# Altium footprint library CP1402.PcbLib: 1 footprints
Each footprint in its own frame and in the unit in brackets; x right, y up, seen from the top. Pads: shape width x height; smd on the part's side, far side on the other; paste and mask are expansions set on the pad; w line width, h text height; cw(c..) or ccw(c..) is an arc to the next point about the centre after c.
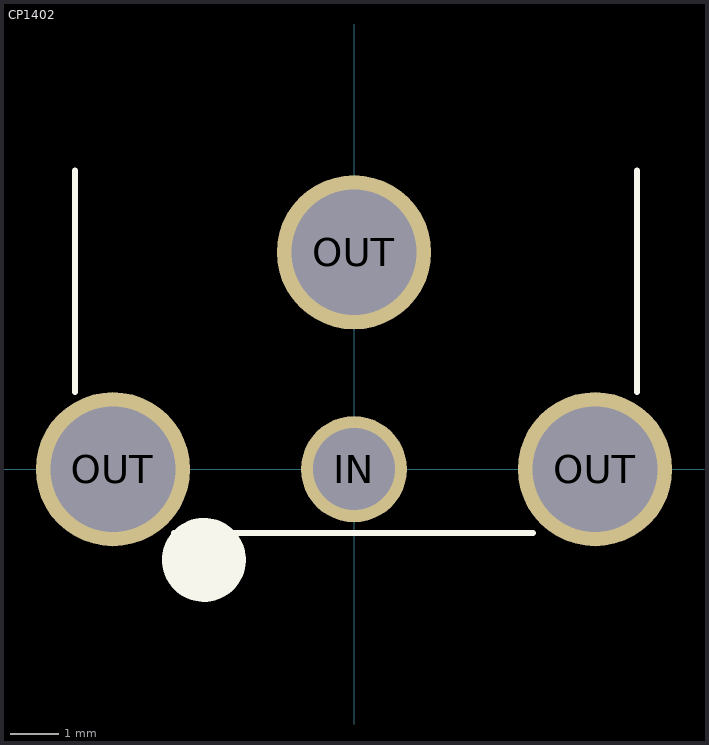
[diagram p0: the footprint, top view; thin cyan lines are the x and y axes]

## CP1402 [mm] "RCA Connector"
height 12
pads (4):
  round 2.2 hole 1.7: IN(0,0)
  round 3.2 hole 2.6: OUT(-5,0) OUT(0,4.5) OUT(5,0)
Top Overlay:
  circle w1: c-3.113,-1.88 r0.37
  lines w0.125: -5.791,1.6 -5.791,6.2 ; -3.734,-1.321 3.708,-1.321 ; 5.867,1.6 5.867,6.2
Mechanical 1:
  lines w0.05: -5.08,-1.397 -5.08,0.127
3D body "rcj-011.stp": height 12, standoff -4.2, extent -5.766,-1.332 5.834,13.168